# Altium schematic symbol library Transistores.SchLib: 7 symbols
Pins are listed as number, name and electrical type; pins without a type are passive.

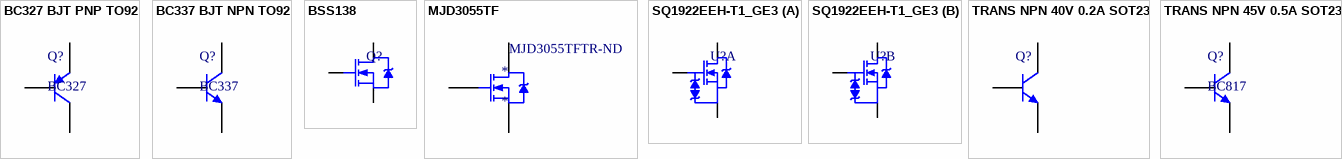
[diagram p0: symbols BC327 BJT PNP TO92 to TRANS NPN 45V 0.5A SOT23]

## BC327 BJT PNP TO92
designator Q?, comment BC327
Bipolar Transistors - BJT PNP -45V -800mA HFE/630; Manufacturer: Fairchild Semiconductor; Collector- Base Voltage VCBO: - 50 V; Configuration: Single; DC Current Gain hFE Max: 630; Emitter- Base Voltage VEBO: - 5 V; Collector-Emitter Saturation Voltage: - 0.7 V; DC Collector/Base Gain hfe Min: 100; Gain Bandwidth Product fT: 100 MHz; Maximum DC Collector Current: 0.8 A; Pd - Power Dissipation: 625 mW; Product Status: Obsolete; Supplier 1: Mult Comercial; Manufacturer Part Number: BC327; RoHS: RoHS Compliant; Category: Bipolar Transistors - BJT; Stock 1: 0; Collector- Emitter Voltage VCEO Max: - 45 V; Package / Case: TO-92; Packaging: Bulk; Series: BC327; Brand: Fairchild Semiconductor; Mounting Style: Through Hole; Transistor Polarity: PNP; Maximum Operating Temperature: + 150 C; Minimum Operating Temperature: - 55 C; Standard Pack Qty: 2000; RoHS - Mouser: Y; Minimum Order Quantity: 1; Reeling: False; ComponentLink1URL: http://loja.multcomercial.com.br/transistor-bc237-25-pnp-to-92-cod-loja-14-fairchild.html; ComponentLink1Description: http://loja.multcomercial.com.br/transistor-bc237-25-pnp-to-92-cod-loja-14-fairchild.html; Supplier Part Number 1: Transistor BC327-25 PNP TO-92 - Cód. Loja 14 - FAIRCHILD; Pricing 1: 1=0.20 (BRL)
footprint TO92
pins: 1 C, 2 B, 3 E

## BC337 BJT NPN TO92
designator Q?, comment BC337
Bipolar Transistors - BJT NPN SS Aud Amp; Manufacturer: Fairchild Semiconductor; Manufacturer Part Number: BC337-25; Collector- Base Voltage VCBO: 50 V; Collector- Emitter Voltage VCEO Max: 45 V; Configuration: Single; Emitter- Base Voltage VEBO: 5 V; Collector-Emitter Saturation Voltage: 0.7 V; DC Collector/Base Gain hfe Min: 100; Gain Bandwidth Product fT: 100 MHz; Maximum DC Collector Current: 0.5 A; Pd - Power Dissipation: 625 mW; Supplier 1: Mult Comercial; RoHS: In Transition; Category: Bipolar Transistors - BJT; Stock 1: 3618; Pricing 1: 1=0.20 (BRL); Package / Case: TO-92; Packaging: Bulk; Series: BC337; Brand: Fairchild Semiconductor; Mounting Style: Through Hole; Transistor Polarity: NPN; Maximum Operating Temperature: + 150 C; Minimum Operating Temperature: - 65 C; Product Category: Small Signal Transistors; Standard Pack Qty: 2000; RoHS - Mouser: T; Minimum Order Quantity: 1; Reeling: False; ComponentLink1URL: http://loja.multcomercial.com.br/transistor-bc337-25-pnp-to-92-cod-loja-16-fairchild.html; ComponentLink1Description: http://loja.multcomercial.com.br/transistor-bc337-25-pnp-to-92-cod-loja-16-fairchild.html; Supplier Part Number 1: Transistor BC337-25 NPN TO-92 - Cód. Loja 16 - FAIRCHILD
footprint TO92
pins: 1 C, 2 B, 3 E

## BSS138
designator Q?  (value not drawn)
MOSFET N-CH 50V 220MA SOT-23; Manufacturer: Fairchild Semiconductor; Manufacturer Part Number: BSS138; Channel Type: N; Rad Hard: No; Channel Mode: Enhancement; Maximum Continuous Drain Current: 0.22 A; RDS-on: 3.5@10V Ohm; Maximum Gate Source Voltage: ±20 V; Typical Turn-On Delay Time: 2.5 ns; Typical Rise Time: 9 ns; Typical Turn-Off Delay Time: 20 ns; Typical Fall Time: 7 ns; Supplier 1: Mouser; Stock 1: 144086; Pricing 1: 1=0.21, 10=0.145, 100=0.06, 1000=0.041, 3000=0.032, 9000=0.027, 24000=0.026, 45000=0.024, 99000=0.021 (USD); Packaging: Tape & Reel; Package: 3SOT-23; Maximum Drain Source Voltage: 50 V; Operating Temperature: -55 to 150 °C; Mounting: Surface Mount; Category: MOSFET; ComponentLink1URL: https://datasheet.ciiva.com/931/bss138-931776.pdf; ComponentLink1Description: https://datasheet.ciiva.com/931/bss138-931776.pdf; ComponentLink2URL: https://datasheet.ciiva.com/1190/193736-1190130.pdf; ComponentLink2Description: https://datasheet.ciiva.com/1190/193736-1190130.pdf; ComponentLink3URL: https://datasheet.ciiva.com/1190/193736-1190131.pdf; ComponentLink3Description: https://datasheet.ciiva.com/1190/193736-1190131.pdf; ComponentLink4URL: https://datasheet.ciiva.com/1254/193736-1254983.pdf; ComponentLink4Description: https://datasheet.ciiva.com/1254/193736-1254983.pdf; ComponentLink5URL: https://datasheet.ciiva.com/3304/bss138-3304423.pdf; ComponentLink5Description: https://datasheet.ciiva.com/3304/bss138-3304423.pdf; ComponentLink6URL: https://datasheet.ciiva.com/3304/bss138-3304424.pdf; ComponentLink6Description: https://datasheet.ciiva.com/3304/bss138-3304424.pdf; ComponentLink7URL: https://datasheet.ciiva.com/22655/193736-22655240.pdf; ComponentLink7Description: https://datasheet.ciiva.com/22655/193736-22655240.pdf; ComponentLink8URL: https://datasheet.ciiva.com/16834/bss138-16834843.pdf; ComponentLink8Description: https://datasheet.ciiva.com/16834/bss138-16834843.pdf; ComponentLink9URL: https://datasheet.ciiva.com/27050/784896-27050043.pdf; ComponentLink9Description: https://datasheet.ciiva.com/27050/784896-27050043.pdf; ComponentLink10URL: https://datasheet.ciiva.com/26229/bss138-26229007.pdf; ComponentLink10Description: https://datasheet.ciiva.com/26229/bss138-26229007.pdf
footprint SOT23-3 M (SOT23, 3-Leads, Body 2,90x2,30mm, Pitch 0,95mm, IPC Low Density)
pins: 1, 2 S, 3 D

## MJD3055TF
designator *  Supplier Part Number 1: MJD3055TFTR-ND
TRANS NPN 60V 10A DPAK; Manufacturer: Fairchild/ON Semiconductor; Manufacturer Part Number: MJD3055TF; Vce Saturation (Max) @ Ib, Ic: 8V @ 3.3A, 10A; Current - Collector Cutoff (Max): 50µA; DC Current Gain (hFE) (Min) @ Ic, Vce: 20 @ 4A, 4V; Power - Max: 1.75W; Frequency - Transition: 2MHz; Supplier 1: Digi-Key; RoHS: RoHS Compliant; Category: Discrete Semiconductor Products; Stock 1: 2000; Pricing 1: 2000=0.22395, 6000=0.2095, 10000=0.19505, 50000=0.1806 (USD); Packaging: Tape & Reel (TR); Part Status: Active; Transistor Type: NPN; Current - Collector (Ic) (Max): 10A; Voltage - Collector Emitter Breakdown (Max): 60V; Operating Temperature: 150°C (TJ); Mounting Type: Surface Mount; Package / Case: TO-252-3, DPak (2 Leads + Tab), SC-63; Supplier Device Package: D-Pak; ComponentLink1URL: https://www.fairchildsemi.com/datasheets/MJ/MJD3055.pdf; ComponentLink1Description: https://www.fairchildsemi.com/datasheets/MJ/MJD3055.pdf
footprint D-PAK (D-PAK/TO-252-AA; 3 Leads (1 Cropped); Body 10.3 (inc. leads) x 6.7 mm (LxW max))
pins: 1 G, 2 D, 3 S

## SQ1922EEH-T1_GE3
designator U?  (value not drawn)
MOSFET 20V Vds Dual N-Ch AEC-Q101 Qualified; Manufacturer Part #: SQ1922EEH-T1_GE3
footprint SC-70-6 (SOT23, 5-Leads, Body 2x1.25mm, Pitch 0.65mm)
part A pins: 1 S1, 2 G1, 6 D1
part B pins: 3 D2, 4 S2, 5 G2

## TRANS NPN 40V 0.2A SOT23
designator Q?, comment MMBT3904LT1G  (value not drawn)
TRANS NPN 40V 0.2A SOT23; Manufacturer: ON Semiconductor; Current - Collector (Ic) (Max): 200mA; Vce Saturation (Max) @ Ib, Ic: 300mV @ 5mA, 50mA; DC Current Gain (hFE) (Min) @ Ic, Vce: 100 @ 10mA, 1V; Power - Max: 300mW; Frequency - Transition: 300MHz; Supplier 1: Digi-Key; Manufacturer Part Number: MMBT3904LT1G; RoHS: RoHS Compliant; Category: Discrete Semiconductor Products; Stock 1: 1303282; Pricing 1: 1=0.12, 10=0.11, 100=0.0598, 500=0.03678, 1000=0.02508 (USD); Packaging: Cut Tape (CT); Part Status: Active; Transistor Type: NPN; Voltage - Collector Emitter Breakdown (Max): 40V; Current - Collector Cutoff (Max): -; Operating Temperature: -55°C ~ 150°C (TJ); Mounting Type: Surface Mount; Package / Case: TO-236-3, SC-59, SOT-23-3; Supplier Device Package: SOT-23-3 (TO-236); ComponentLink1URL: http://www.onsemi.com/pub_link/Collateral/MMBT3904LT1-D.PDF; ComponentLink1Description: http://www.onsemi.com/pub_link/Collateral/MMBT3904LT1-D.PDF; Supplier Part Number 1: MMBT3904LT1GOSCT-ND
footprint SOT23-3 M (SOT23, 3-Leads, Body 2,90x2,30mm, Pitch 0,95mm, IPC Low Density)
pins: 1 B, 2 E, 3 C

## TRANS NPN 45V 0.5A SOT23
designator Q?, comment BC817
TRANS NPN 45V 0.5A SOT23; Manufacturer: NXP USA Inc.; Manufacturer Part Number: BC817-40,215; Current - Collector (Ic) (Max): 500mA; Vce Saturation (Max) @ Ib, Ic: 700mV @ 50mA, 500mA; Current - Collector Cutoff (Max): 100nA (ICBO); DC Current Gain (hFE) (Min) @ Ic, Vce: 250 @ 100mA, 1V; Power - Max: 250mW; Frequency - Transition: 100MHz; Supplier 1: Digi-Key; RoHS: RoHS Compliant; Category: Discrete Semiconductor Products; Stock 1: 97485; Pricing 1: 1=0.14, 10=0.127, 100=0.0692, 500=0.0426, 1000=0.02904 (USD); Packaging: Cut Tape (CT); Part Status: Active; Transistor Type: NPN; Voltage - Collector Emitter Breakdown (Max): 45V; Operating Temperature: 150°C (TJ); Mounting Type: Surface Mount; Package / Case: TO-236-3, SC-59, SOT-23-3; Supplier Device Package: SOT-23 (TO-236AB); ComponentLink1URL: http://www.nxp.com/documents/data_sheet/BC817_BC817W_BC337.pdf; ComponentLink1Description: http://www.nxp.com/documents/data_sheet/BC817_BC817W_BC337.pdf; Supplier Part Number 1: 568-1631-1-ND
footprint SOT23-3 M (SOT23, 3-Leads, Body 2,90x2,30mm, Pitch 0,95mm, IPC Low Density)
pins: 1 B, 2 E, 3 C